# Altium schematic symbol library Transistors.SchLib: 35 symbols
Pins are listed as number, name and electrical type; pins without a type are passive.

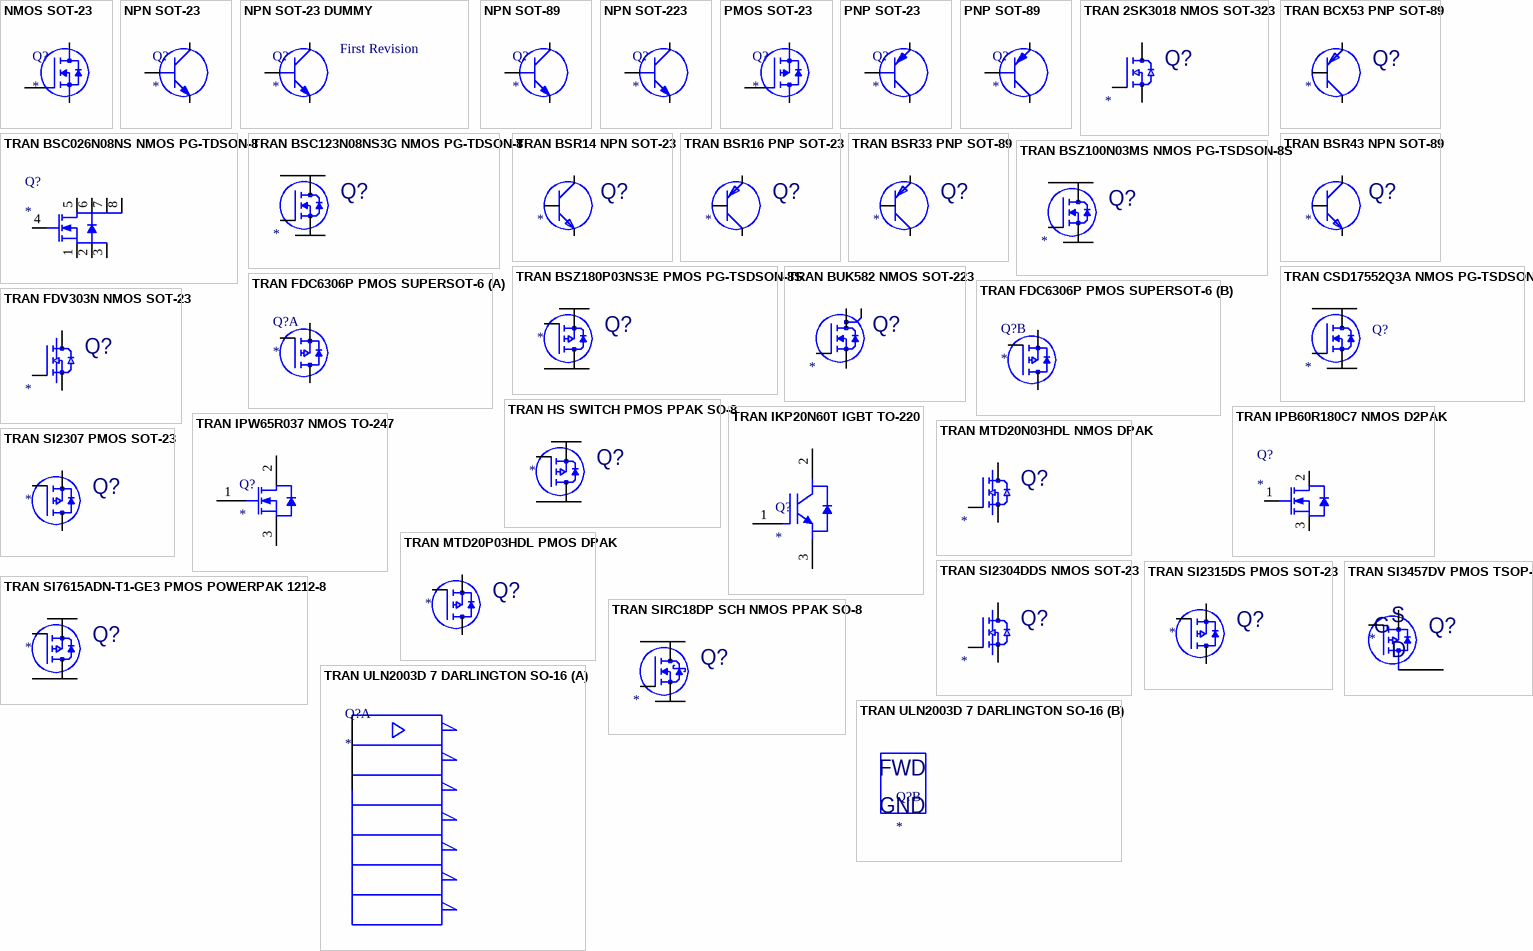
[diagram p0: symbols NMOS SOT-23 to TRAN ULN2003D 7 DARLINGTON SO-16]

## NMOS SOT-23
designator Q?
=Description
pins: 1 Gate, 2 Source, 3 Drain

## NPN SOT-23
designator Q?
=Description
pins: 1 Base, 2 Emitter, 3 Collector

## NPN SOT-23 DUMMY
designator Q?
=Description
pins: 1 Base, 2 Emitter, 3 Collector
text: First Revision

## NPN SOT-89
designator Q?
=Description
pins: 1 Emitter, 2 Collector, 3 Base

## NPN SOT-223
designator Q?
=Description
pins: 1 Base, 2 Collector, 3 Emitter

## PMOS SOT-23
designator Q?
=Description
pins: 1 Gate, 2 Source, 3 Drain

## PNP SOT-23
designator Q?
=Description
pins: 1 Base, 2 Emitter, 3 Collector

## PNP SOT-89
designator Q?
=Description
pins: 1 Emitter, 2 Collector, 3 Base

## TRAN 2SK3018 NMOS SOT-323
designator Q?
=Description
pins: D, G, S

## TRAN BCX53 PNP SOT-89
designator Q?
=Description
pins: 1, 2, 3

## TRAN BSC026N08NS NMOS PG-TDSON-8
designator Q?
=Description
pins: 1 SOURCE, 2 SOURCE, 3 SOURCE, 4 GATE, 5 DRAIN, 6 DRAIN, 7 DRAIN, 8 DRAIN

## TRAN BSC123N08NS3G NMOS PG-TDSON-8
designator Q?
=Description
pins: 1, 2, 3, 4, 5, 6, 7, 8

## TRAN BSR14 NPN SOT-23
designator Q?
=Description
pins: 1, 2, 3

## TRAN BSR16 PNP SOT-23
designator Q?
=Description
pins: 1, 2, 3

## TRAN BSR33 PNP SOT-89
designator Q?
=Description
pins: 1, 2, 3

## TRAN BSR43 NPN SOT-89
designator Q?
=Description
pins: 1, 2, 3

## TRAN BSZ100N03MS NMOS PG-TSDSON-8S
designator Q?
=Description
pins: 1, 2, 3, 4, 5, 6, 7, 8

## TRAN BSZ180P03NS3E PMOS PG-TSDSON-8S
designator Q?
=Description
pins: 1, 2, 3, 4, 5, 6, 7, 8

## TRAN BUK582 NMOS SOT-223
designator Q?
=Description
pins: 1, 2, 3, 4

## TRAN CSD17552Q3A NMOS PG-TSDSON-8
designator Q?
=Description
pins: 1, 2, 3, 4, 5, 6, 7, 8

## TRAN FDC6306P PMOS SUPERSOT-6
designator Q?
=Description
part A pins: 2, 3, 4
part B pins: 1, 5, 6

## TRAN FDV303N NMOS SOT-23
designator Q?
=Description
pins: D, G, S

## TRAN HS SWITCH PMOS PPAK SO-8
designator Q?
=Description
pins: 1, 2, 3, 4, 5, 6, 7, 8

## TRAN IKP20N60T IGBT TO-220
designator Q?
=Description
pins: 1 G, 2 C, 3 E

## TRAN IPB60R180C7 NMOS D2PAK
designator Q?
=Description
pins: 1 GATE, 2 DRAIN, 3 SOURCE

## TRAN IPW65R037 NMOS TO-247
designator Q?
=Description
pins: 1 GATE, 2 DRAIN, 3 SOURCE

## TRAN MTD20N03HDL NMOS DPAK
designator Q?
=Description
pins: 1, 2, 3

## TRAN MTD20P03HDL PMOS DPAK
designator Q?
=Description
pins: 1, 2, 3

## TRAN SI2304DDS NMOS SOT-23
designator Q?
=Description
pins: D, G, S

## TRAN SI2307 PMOS SOT-23
designator Q?
=Description
pins: D, G, S

## TRAN SI2315DS PMOS SOT-23
designator Q?
=Description
pins: D, G, S

## TRAN SI3457DV PMOS TSOP-6
designator Q?
=Description
pins: 1, 2, 3, 4, 5, 6
text: S; G; D

## TRAN SI7615ADN-T1-GE3 PMOS POWERPAK 1212-8
designator Q?
=Description
pins: 1, 2, 3, 4, 5, 6, 7, 8

## TRAN SIRC18DP SCH NMOS PPAK SO-8
designator Q?
=Description
pins: 1, 2, 3, 4, 5, 6, 7, 8

## TRAN ULN2003D 7 DARLINGTON SO-16
designator Q?
=Description
part A pins: 1, 2, 3, 4, 5, 6, 7, 10, 11, 12, 13, 14, 15, 16
part B pins: 8, 9
part B text: FWD; GND